# Altium footprint library Trans_Vishay_Siliconix_SI2301BDS-T1-E3_eec_MFG.PcbLib: 1 footprints
Each footprint in its own frame and in the unit in brackets; x right, y up, seen from the top. Pads: shape width x height; smd on the part's side, far side on the other; paste and mask are expansions set on the pad; w line width, h text height; cw(c..) or ccw(c..) is an arc to the next point about the centre after c.
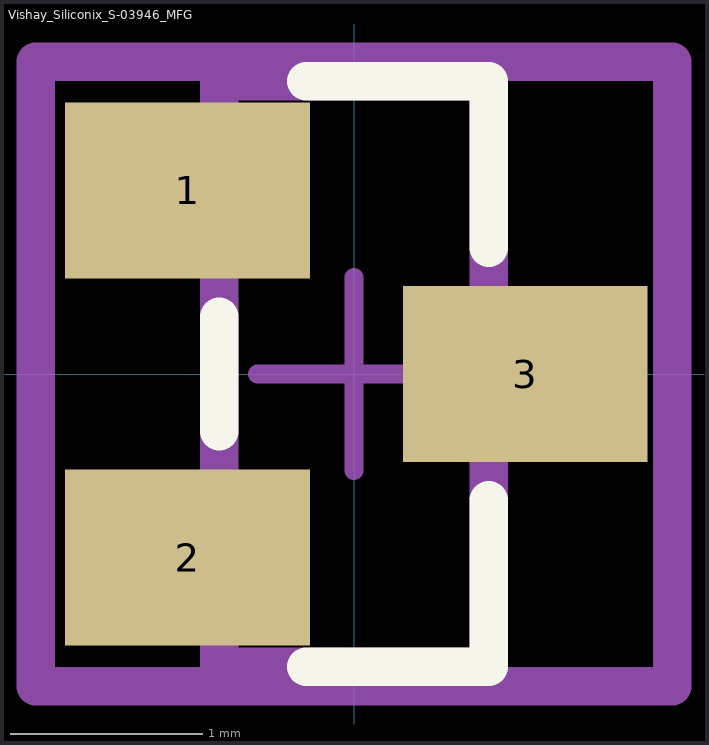
[diagram p0: the footprint, top view; thin cyan lines are the x and y axes]

## Vishay_Siliconix_S-03946_MFG [mil]
pads (3):
  rect 50x36 smd paste+0 mask+0: 1(-34,37.5) 2(-34,-37.5) 3(35,0)
Top Overlay:
  lines w7.87: -27.56,-11.74 -27.56,11.74 ; -9.74,-59.84 27.56,-59.84 27.56,-25.76 ; -9.74,59.84 27.56,59.84 27.56,25.76
Mechanical 10:
  lines w7.87: -65,-63.78 65,-63.78 65,63.78 -65,63.78 -65,-63.78
  text ".Designator" at 0,0 h39.37
Mechanical 12:
  lines w7.87: -27.56,-59.84 27.56,-59.84 27.56,59.84 -27.56,59.84 -27.56,-59.84
Mechanical 15:
  lines w3.94: -19.68,0 19.68,0 ; 0,-19.68 0,19.68
  lines w7.87: -65,-63.78 65,-63.78 65,63.78 -65,63.78 -65,-63.78
3D body: height 10, standoff 0, extent -65,-63.78 65,63.78